# Altium schematic symbol library Modules.SchLib: 16 symbols
Pins are listed as number, name and electrical type; pins without a type are passive.

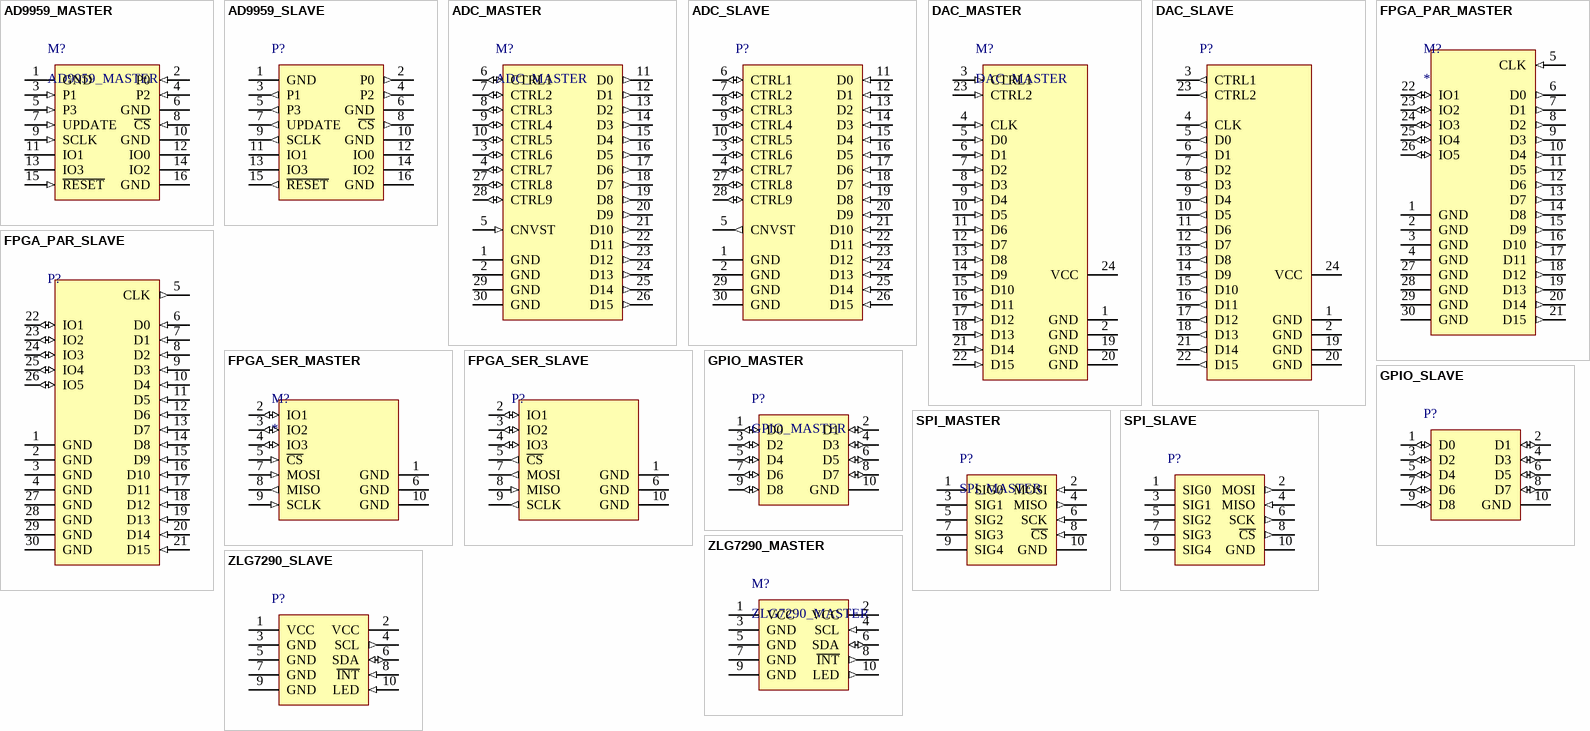
[diagram p0: symbols AD9959_MASTER to ZLG7290_SLAVE]

## AD9959_MASTER
designator M?
DDS module
footprint IDC16
pins: 1 GND (power), 2 P0 (in), 3 P1 (in), 4 P2 (in), 5 P3 (in), 6 GND (power), 7 UPDATE (in), 8 ~{CS} (in), 9 SCLK (in), 10 GND (power), 11 IO1, 12 IO0, 13 IO3, 14 IO2, 15 ~{RESET} (in), 16 GND (power)

## AD9959_SLAVE
designator P?  (value not drawn)
DDS module
footprint IDC16
pins: 1 GND (power), 2 P0 (out), 3 P1 (out), 4 P2 (out), 5 P3 (out), 6 GND (power), 7 UPDATE (out), 8 ~{CS} (out), 9 SCLK (out), 10 GND (power), 11 IO1, 12 IO0, 13 IO3, 14 IO2, 15 ~{RESET} (out), 16 GND (power)

## ADC_MASTER
designator M?
Generic ADC module
footprint IDC30
pins: 1 GND (power), 2 GND (power), 3 CTRL6 (io), 4 CTRL7 (io), 5 CNVST (in), 6 CTRL1 (io), 7 CTRL2 (io), 8 CTRL3 (io), 9 CTRL4 (io), 10 CTRL5 (io), 11 D0 (out), 12 D1 (out), 13 D2 (out), 14 D3 (out), 15 D4 (out), 16 D5 (out), 17 D6 (out), 18 D7 (out), 19 D8 (out), 20 D9 (out), 21 D10 (out), 22 D11 (out), 23 D12 (out), 24 D13 (out), 25 D14 (out), 26 D15 (out), 27 CTRL8 (io), 28 CTRL9 (io), 29 GND (power), 30 GND (power)

## ADC_SLAVE
designator P?  (value not drawn)
Generic ADC module
footprint IDC30
pins: 1 GND (power), 2 GND (power), 3 CTRL6 (io), 4 CTRL7 (io), 5 CNVST (out), 6 CTRL1 (io), 7 CTRL2 (io), 8 CTRL3 (io), 9 CTRL4 (io), 10 CTRL5 (io), 11 D0 (in), 12 D1 (in), 13 D2 (in), 14 D3 (in), 15 D4 (in), 16 D5 (in), 17 D6 (in), 18 D7 (in), 19 D8 (in), 20 D9 (in), 21 D10 (in), 22 D11 (in), 23 D12 (in), 24 D13 (in), 25 D14 (in), 26 D15 (in), 27 CTRL8 (io), 28 CTRL9 (io), 29 GND (power), 30 GND (power)

## DAC_MASTER
designator M?
Generic DAC module
footprint IDC24
pins: 1 GND (power), 2 GND (power), 3 CTRL1 (in), 4 CLK (in), 5 D0 (in), 6 D1 (in), 7 D2 (in), 8 D3 (in), 9 D4 (in), 10 D5 (in), 11 D6 (in), 12 D7 (in), 13 D8 (in), 14 D9 (in), 15 D10 (in), 16 D11 (in), 17 D12 (in), 18 D13 (in), 19 GND (power), 20 GND (power), 21 D14 (in), 22 D15 (in), 23 CTRL2 (in), 24 VCC (power)

## DAC_SLAVE
designator P?  (value not drawn)
Generic DAC module
footprint IDC24
pins: 1 GND (power), 2 GND (power), 3 CTRL1 (out), 4 CLK (out), 5 D0 (out), 6 D1 (out), 7 D2 (out), 8 D3 (out), 9 D4 (out), 10 D5 (out), 11 D6 (out), 12 D7 (out), 13 D8 (out), 14 D9 (out), 15 D10 (out), 16 D11 (out), 17 D12 (out), 18 D13 (out), 19 GND (power), 20 GND (power), 21 D14 (out), 22 D15 (out), 23 CTRL2 (out), 24 VCC (power)

## FPGA_PAR_MASTER
designator M?
FPGA parallel port
footprint IDC30
pins: 1 GND (power), 2 GND (power), 3 GND (power), 4 GND (power), 5 CLK (in), 6 D0 (out), 7 D1 (out), 8 D2 (out), 9 D3 (out), 10 D4 (out), 11 D5 (out), 12 D6 (out), 13 D7 (out), 14 D8 (out), 15 D9 (out), 16 D10 (out), 17 D11 (out), 18 D12 (out), 19 D13 (out), 20 D14 (out), 21 D15 (out), 22 IO1 (io), 23 IO2 (io), 24 IO3 (io), 25 IO4 (io), 26 IO5 (io), 27 GND (power), 28 GND (power), 29 GND (power), 30 GND (power)

## FPGA_PAR_SLAVE
designator P?  (value not drawn)
FPGA parallel port
footprint IDC30
pins: 1 GND (power), 2 GND (power), 3 GND (power), 4 GND (power), 5 CLK (out), 6 D0 (in), 7 D1 (in), 8 D2 (in), 9 D3 (in), 10 D4 (in), 11 D5 (in), 12 D6 (in), 13 D7 (in), 14 D8 (in), 15 D9 (in), 16 D10 (in), 17 D11 (in), 18 D12 (in), 19 D13 (in), 20 D14 (in), 21 D15 (in), 22 IO1 (io), 23 IO2 (io), 24 IO3 (io), 25 IO4 (io), 26 IO5 (io), 27 GND (power), 28 GND (power), 29 GND (power), 30 GND (power)

## FPGA_SER_MASTER
designator M?
FPGA serial port
footprint IDC10
pins: 1 GND (power), 2 IO1 (io), 3 IO2 (io), 4 IO3 (io), 5 ~{CS} (in), 6 GND (power), 7 MOSI (in), 8 MISO (out), 9 SCLK (in), 10 GND (power)

## FPGA_SER_SLAVE
designator P?  (value not drawn)
FPGA serial port
footprint IDC10
pins: 1 GND (power), 2 IO1 (io), 3 IO2 (io), 4 IO3 (io), 5 ~{CS} (out), 6 GND (power), 7 MOSI (out), 8 MISO (in), 9 SCLK (out), 10 GND (power)

## GPIO_MASTER
designator P?
footprint IDC10
pins: 1 D0 (io), 2 D1 (io), 3 D2 (io), 4 D3 (io), 5 D4 (io), 6 D5 (io), 7 D6 (io), 8 D7 (io), 9 D8 (io), 10 GND (power)

## GPIO_SLAVE
designator P?  (value not drawn)
footprint IDC10
pins: 1 D0 (io), 2 D1 (io), 3 D2 (io), 4 D3 (io), 5 D4 (io), 6 D5 (io), 7 D6 (io), 8 D7 (io), 9 D8 (io), 10 GND (power)

## SPI_MASTER
designator P?
footprint IDC10
pins: 1 SIG0, 2 MOSI (in), 3 SIG1, 4 MISO (out), 5 SIG2, 6 SCK (in), 7 SIG3, 8 ~{CS} (in), 9 SIG4, 10 GND (power)

## SPI_SLAVE
designator P?  (value not drawn)
footprint IDC10
pins: 1 SIG0, 2 MOSI (out), 3 SIG1, 4 MISO (in), 5 SIG2, 6 SCK (out), 7 SIG3, 8 ~{CS} (out), 9 SIG4, 10 GND (power)

## ZLG7290_MASTER
designator M?
KEY module
footprint IDC10
pins: 1 VCC (power), 2 VCC (power), 3 GND (power), 4 SCL (in), 5 GND (power), 6 SDA (io), 7 GND (power), 8 ~{INT} (out), 9 GND (power), 10 LED (out)

## ZLG7290_SLAVE
designator P?  (value not drawn)
KEY module
footprint IDC10
pins: 1 VCC (power), 2 VCC (power), 3 GND (power), 4 SCL (out), 5 GND (power), 6 SDA (io), 7 GND (power), 8 ~{INT} (in), 9 GND (power), 10 LED (in)